# Altium integrated library TI Converter CODEC Voice-Band.IntLib: 99 symbols (part 7 of 7)
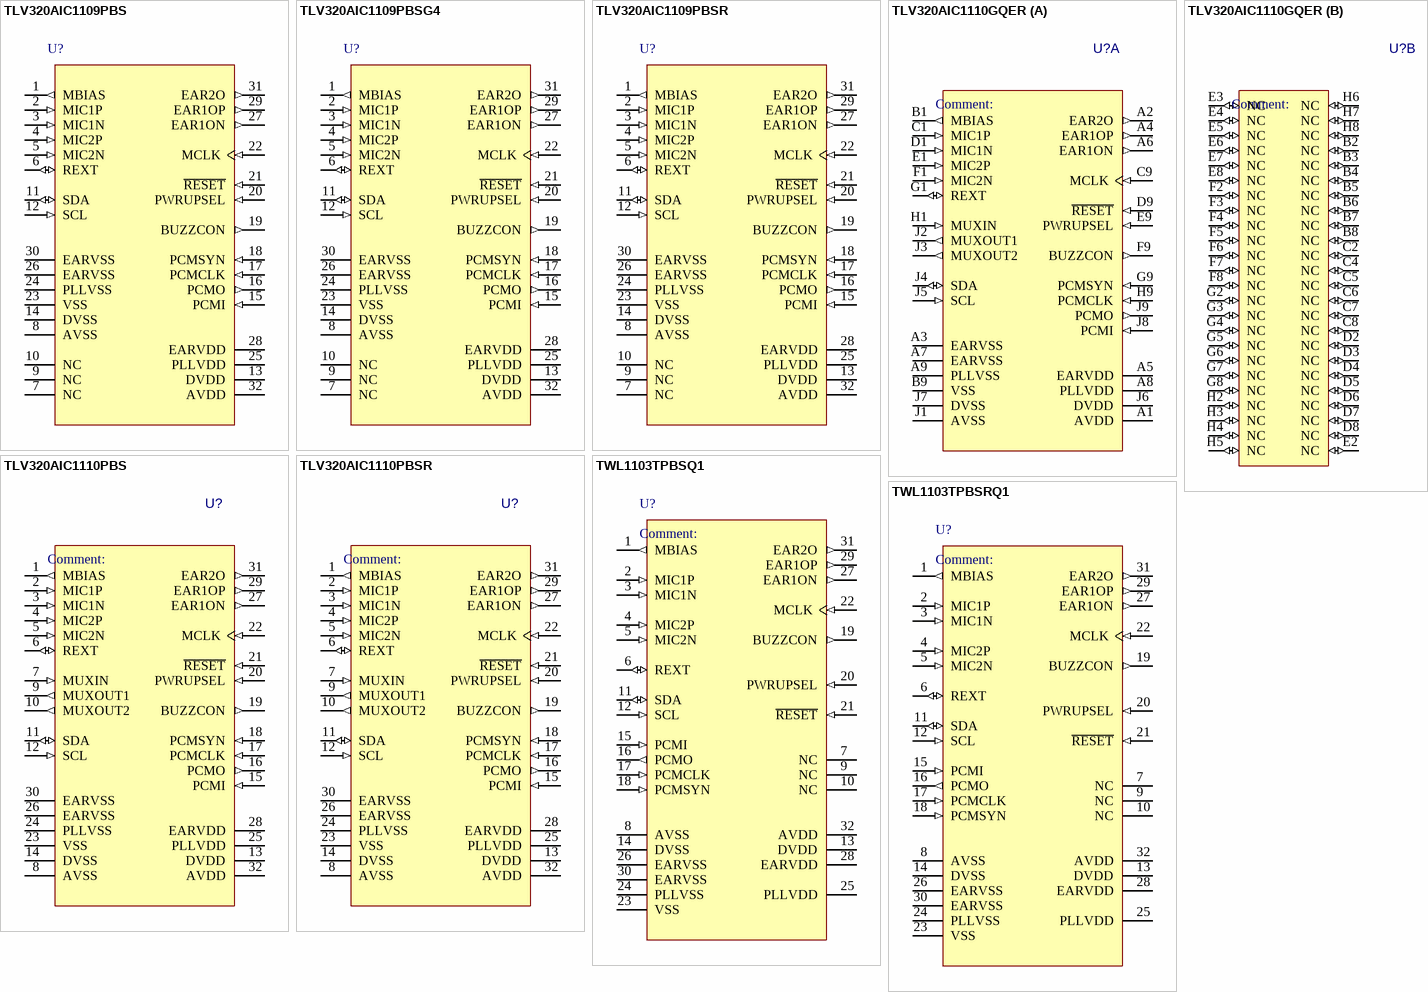
[diagram p15: symbols TLV320AIC1109PBS to TWL1103TPBSRQ1]

## TLV320AIC1110PBSR
designator U?
Programmable PCM CODEC With Microphone Amps & Speaker Driver, 32-Pin TQFP; Published: 16-Dec-2005; LatestRevisionDate: 13-Apr-2006; LatestRevisionNote: IPC-7351 Footprint Added.; DatasheetVersion: 16-May-2005; PackageVersion: Nov-1995; PackageReference: PBS32; Publisher: Altium Limited; PackageDescription: 32-Pin Thin Plastic Quad Flat Pack 0.5 mm Pitch; Code_JEDEC: MS-026-AAA; ComponentLink1Description: Manufacturer Link; ComponentLink1URL: http://www.ti.com/; ComponentLink2Description: Datasheet; ComponentLink2URL: http://focus.ti.com/lit/ds/symlink/tlv320aic1110.pdf
footprint PBS32_N (Thin QFP, 32-Leads, Body 5x5mm, Pitch 0.5mm, IPC Medium Density)
footprint PBS32_L (Thin QFP, 32-Leads, Body 5x5mm, Pitch 0.5mm, IPC High Density)
footprint PBS32_M (Thin QFP, 32-Leads, Body 5x5mm, Pitch 0.5mm, IPC Low Density)
pins: 1 MBIAS (out) "Microphone bias supply output, no decoupling capacitors", 2 MIC1P (in) "MIC1 input (+)", 3 MIC1N (in) "MIC1 input (-)", 4 MIC2P (in) "MIC2 input (+)", 5 MIC2N (in) "MIC2 input (-)", 6 REXT (io) "Internal reference current setting terminal (use precision 100-k?resistor and no filtering capacitors)", 7 MUXIN (in) "Analog MUX input", 8 AVSS (power) "Analog negative power supply (use for ground connection)", 9 MUXOUT1 (out) "Analog MUX output", 10 MUXOUT2 (out) "Analog MUX output", 11 SDA (io) "I2C-bus serial address/data input/output.", 12 SCL (in) "I2C-bus serial clock. This input is used to synchronize the data transfer from and to the PCM codec.", 13 DVDD (power) "Digital positive power supply", 14 DVSS (power) "Digital negative power supply", 15 PCMI (in) "Receive PCM input", 16 PCMO (out) "Transmit PCM output", 17 PCMCLK (in) "PCM data clock", 18 PCMSYN (in) "PCM frame sync", 19 BUZZCON (out) "Buzzer output, a pulse-density modulated signal to apply to external buzzer driver", 20 PWRUPSEL (in) "Selects the power-up default mode", 21 ~{RESET} (in) "Active low reset", 22 MCLK (in) "Master system clock input (2.048 MHz, digital)", 23 VSS (power) "Ground return for bandgap internal reference (use for ground connection)", 24 PLLVSS (power) "PLL negative power supply", 25 PLLVDD (power) "PLL digital power supply", 26 EARVSS (power) "Analog negative power supply for the earphone amplifiers", 27 EAR1ON (out) "Earphone 1 amplifier output (-)", 28 EARVDD (power) "Analog positive power supply for the earphone amplifiers", 29 EAR1OP (out) "Earphone 1 amplifier output (+)", 30 EARVSS (power) "Analog negative power supply for the earphone amplifiers", 31 EAR2O (out) "Earphone 2 amplifier output", 32 AVDD (power) "Analog positive power supply"

## TWL1103TPBSQ1
designator U?
Automotive Catalog Voice-Band Audio Processor (VBAP), 32-Pin TQFP; Published: 16-Dec-2005; LatestRevisionDate: 13-Apr-2006; LatestRevisionNote: IPC-7351 Footprint Added.; DatasheetVersion: 30-Mar-2005; PackageVersion: Nov-1995; PackageReference: PBS32; Publisher: Altium Limited; PackageDescription: 32-Pin Thin Plastic Quad Flat Pack 0.5 mm Pitch; Code_JEDEC: MS-026-AAA; ComponentLink1Description: Manufacturer Link; ComponentLink1URL: http://www.ti.com/; ComponentLink2Description: Datasheet; ComponentLink2URL: http://focus.ti.com/lit/ds/symlink/twl1103t-q1.pdf
footprint PBS32_N (Thin QFP, 32-Leads, Body 5x5mm, Pitch 0.5mm, IPC Medium Density)
footprint PBS32_L (Thin QFP, 32-Leads, Body 5x5mm, Pitch 0.5mm, IPC High Density)
footprint PBS32_M (Thin QFP, 32-Leads, Body 5x5mm, Pitch 0.5mm, IPC Low Density)
pins: 1 MBIAS (out) "Microphone bias supply output, no decoupling capacitors", 2 MIC1P (in) "MIC1 input (+)", 3 MIC1N (in) "MIC1 input (-)", 4 MIC2P (in) "MIC2 input (+)", 5 MIC2N (in) "MIC2 input (-)", 6 REXT (io) "Internal reference current setting terminal", 7 NC "Not connected", 8 AVSS (power) "Analog negative power supply", 9 NC "Not connected", 10 NC "Not connected", 11 SDA (io) "I2C-bus serial address/data input/output; a bidirectional terminal used to transfer register control addresses and data into and out of the CODEC.", 12 SCL (in) "I2C-bus serial clock; this input is used to synchronize the data transfer from and to the VBAP", 13 DVDD (power) "Digital positive power supply", 14 DVSS (power) "Digital negative power supply", 15 PCMI (in) "Receive PCM input", 16 PCMO (out) "Transmit PCM output", 17 PCMCLK (in) "PCM data clock", 18 PCMSYN (in) "PCM frame synchronization", 19 BUZZCON (out) "Buzzer output, a pulse-density modulated signal to apply to external buzzer driver", 20 PWRUPSEL (in) "Selects the power-up default mode", 21 ~{RESET} (in) "Active low reset", 22 MCLK (in) "Master system clock input (2.048 MHz) (digital)", 23 VSS (power) "Ground return for bandgap internal reference", 24 PLLVSS (power) "PLL negative power supply", 25 PLLVDD (power) "PLL digital power supply", 26 EARVSS (power) "Analog negative power supply for the earphone amplifiers", 27 EAR1ON (out) "Earphone 1 amplifier output (-)", 28 EARVDD (power) "Analog positive power supply for the earphone amplifiers", 29 EAR1OP (out) "Earphone 1 amplifier output (+)", 30 EARVSS (power) "Analog negative power supply for the earphone amplifiers", 31 EAR2O (out) "Earphone 2 amplifier output", 32 AVDD (power) "Analog positive power supply"

## TWL1103TPBSRQ1
designator U?
Automotive Catalog Voice-Band Audio Processor (VBAP), 32-Pin TQFP; Published: 16-Dec-2005; LatestRevisionDate: 13-Apr-2006; LatestRevisionNote: IPC-7351 Footprint Added.; DatasheetVersion: 30-Mar-2005; PackageVersion: Nov-1995; PackageReference: PBS32; Publisher: Altium Limited; PackageDescription: 32-Pin Thin Plastic Quad Flat Pack 0.5 mm Pitch; Code_JEDEC: MS-026-AAA; ComponentLink1Description: Manufacturer Link; ComponentLink1URL: http://www.ti.com/; ComponentLink2Description: Datasheet; ComponentLink2URL: http://focus.ti.com/lit/ds/symlink/twl1103t-q1.pdf
footprint PBS32_N (Thin QFP, 32-Leads, Body 5x5mm, Pitch 0.5mm, IPC Medium Density)
footprint PBS32_L (Thin QFP, 32-Leads, Body 5x5mm, Pitch 0.5mm, IPC High Density)
footprint PBS32_M (Thin QFP, 32-Leads, Body 5x5mm, Pitch 0.5mm, IPC Low Density)
pins: 1 MBIAS (out) "Microphone bias supply output, no decoupling capacitors", 2 MIC1P (in) "MIC1 input (+)", 3 MIC1N (in) "MIC1 input (-)", 4 MIC2P (in) "MIC2 input (+)", 5 MIC2N (in) "MIC2 input (-)", 6 REXT (io) "Internal reference current setting terminal", 7 NC "Not connected", 8 AVSS (power) "Analog negative power supply", 9 NC "Not connected", 10 NC "Not connected", 11 SDA (io) "I2C-bus serial address/data input/output; a bidirectional terminal used to transfer register control addresses and data into and out of the CODEC.", 12 SCL (in) "I2C-bus serial clock; this input is used to synchronize the data transfer from and to the VBAP", 13 DVDD (power) "Digital positive power supply", 14 DVSS (power) "Digital negative power supply", 15 PCMI (in) "Receive PCM input", 16 PCMO (out) "Transmit PCM output", 17 PCMCLK (in) "PCM data clock", 18 PCMSYN (in) "PCM frame synchronization", 19 BUZZCON (out) "Buzzer output, a pulse-density modulated signal to apply to external buzzer driver", 20 PWRUPSEL (in) "Selects the power-up default mode", 21 ~{RESET} (in) "Active low reset", 22 MCLK (in) "Master system clock input (2.048 MHz) (digital)", 23 VSS (power) "Ground return for bandgap internal reference", 24 PLLVSS (power) "PLL negative power supply", 25 PLLVDD (power) "PLL digital power supply", 26 EARVSS (power) "Analog negative power supply for the earphone amplifiers", 27 EAR1ON (out) "Earphone 1 amplifier output (-)", 28 EARVDD (power) "Analog positive power supply for the earphone amplifiers", 29 EAR1OP (out) "Earphone 1 amplifier output (+)", 30 EARVSS (power) "Analog negative power supply for the earphone amplifiers", 31 EAR2O (out) "Earphone 2 amplifier output", 32 AVDD (power) "Analog positive power supply"